# Altium footprint library C1812C222F1GACTU.PcbLib: 3 footprints
Each footprint in its own frame and in the unit in brackets; x right, y up, seen from the top. Pads: shape width x height; smd on the part's side, far side on the other; paste and mask are expansions set on the pad; w line width, h text height; cw(c..) or ccw(c..) is an arc to the next point about the centre after c.
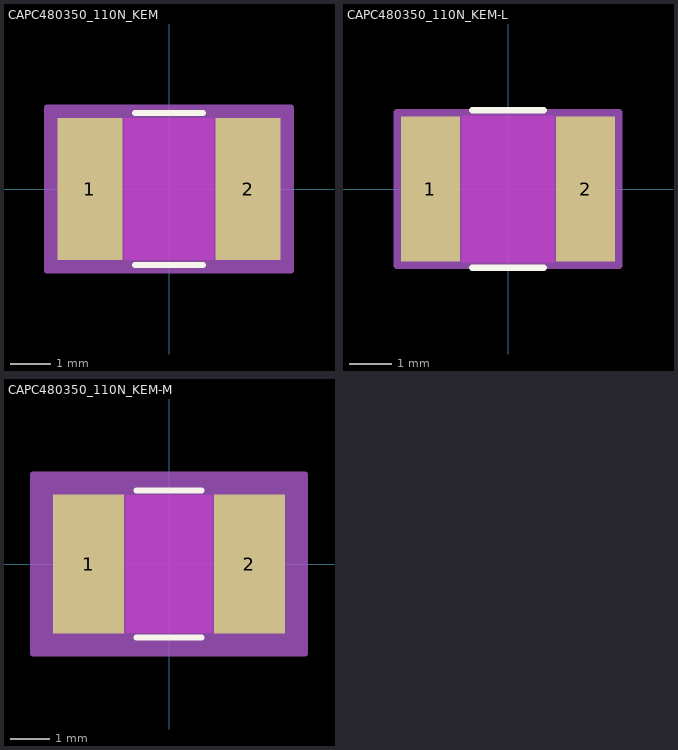
[diagram p0: the footprints below, top view; thin cyan lines are the x and y axes]

## CAPC480350_110N_KEM [mm]
pads (2):
  rect 1.606x3.5 smd paste+0 mask+0: 1(-1.953,0) 2(1.953,0)
Top Layer keep-out:
  region: -1.099,-1.699 -1.099,1.699 1.099,1.699 1.099,-1.699
Top Overlay:
  lines w0.152: -0.842,-1.877 0.842,-1.877 ; -0.842,1.877 0.842,1.877
Keep-Out Layer:
  region: -1.099,-1.75 -1.099,1.75 1.099,1.75 1.099,-1.75
Mechanical 13:
  lines w0.025: -2.4,-1.75 -2.4,1.75 ; -2.4,-1.75 -1.45,-1.75 -1.45,1.75 -2.4,1.75 ; -2.4,-1.75 2.4,-1.75 ; -2.4,-1.75 -2.4,1.75 ; -2.4,1.75 2.4,1.75 ; 2.4,-1.75 1.45,-1.75 1.45,1.75 2.4,1.75 ; 2.4,-1.75 2.4,1.75 ; 2.4,-1.75 2.4,1.75
Mechanical 15:
  region: 3.01,-2.004 -3.01,-2.004 -3.01,2.004 3.01,2.004
  lines w0.152: -3.01,-2.004 -3.01,2.004 3.01,2.004 3.01,-2.004 -3.01,-2.004
3D body "CAPC480350_110N_KEM.step": height 1.1, standoff 0, extent -2.4,-1.75 2.4,1.75

## CAPC480350_110N_KEM-L [mm]
pads (2):
  rect 1.402x3.449 smd paste+0 mask+0: 1(-1.851,0) 2(1.851,0)
Top Layer keep-out:
  region: -1.099,-1.699 -1.099,1.699 1.099,1.699 1.099,-1.699
Top Overlay:
  lines w0.152: -0.854,-1.877 0.854,-1.877 ; -0.854,1.877 0.854,1.877
Keep-Out Layer:
  region: -1.099,-1.75 -1.099,1.75 1.099,1.75 1.099,-1.75
Mechanical 13:
  lines w0.025: -2.4,-1.75 -2.4,1.75 ; -2.4,-1.75 -1.45,-1.75 -1.45,1.75 -2.4,1.75 ; -2.4,-1.75 2.4,-1.75 ; -2.4,-1.75 -2.4,1.75 ; -2.4,1.75 2.4,1.75 ; 2.4,-1.75 1.45,-1.75 1.45,1.75 2.4,1.75 ; 2.4,-1.75 2.4,1.75 ; 2.4,-1.75 2.4,1.75
Mechanical 15:
  region: 2.654,-1.826 -2.654,-1.826 -2.654,1.826 2.654,1.826
  lines w0.152: -2.654,-1.826 -2.654,1.826 2.654,1.826 2.654,-1.826 -2.654,-1.826
3D body "CAPC480350_110N_KEM.step": height 1.1, standoff 0, extent -2.4,-1.75 2.4,1.75

## CAPC480350_110N_KEM-M [mm]
pads (2):
  rect 1.809x3.551 smd paste+0 mask+0: 1(-2.054,0) 2(2.054,0)
Top Layer keep-out:
  region: -1.099,-1.699 -1.099,1.699 1.099,1.699 1.099,-1.699
Top Overlay:
  lines w0.152: -0.833,-1.877 0.833,-1.877 ; -0.833,1.877 0.833,1.877
Keep-Out Layer:
  region: -1.099,-1.75 -1.099,1.75 1.099,1.75 1.099,-1.75
Mechanical 13:
  lines w0.025: -2.4,-1.75 -2.4,1.75 ; -2.4,-1.75 -1.45,-1.75 -1.45,1.75 -2.4,1.75 ; -2.4,-1.75 2.4,-1.75 ; -2.4,-1.75 -2.4,1.75 ; -2.4,1.75 2.4,1.75 ; 2.4,-1.75 1.45,-1.75 1.45,1.75 2.4,1.75 ; 2.4,-1.75 2.4,1.75 ; 2.4,-1.75 2.4,1.75
Mechanical 15:
  region: 3.467,-2.283 -3.467,-2.283 -3.467,2.283 3.467,2.283
  lines w0.152: -3.467,-2.283 -3.467,2.283 3.467,2.283 3.467,-2.283 -3.467,-2.283
3D body "CAPC480350_110N_KEM.step": height 1.1, standoff 0, extent -2.4,-1.75 2.4,1.75